# Altium integrated library USB-B-S-X-X-VT.IntLib: 1 symbol
Pins are listed as number, name and electrical type; pins without a type are passive.

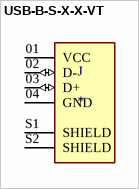
[diagram p0: symbol USB-B-S-X-X-VT]

## USB-B-S-X-X-VT
designator J
USB-B (USB TYPE-B) USB 2.0 Receptacle Connector 4 Position Through Hole; MF: Samtec; MP: USB-B-S-F-B-VT; Value: *; SnapEDA_Link: https://www.snapeda.com/parts/USB-B-S-F-B-VT/Samtec%20Inc./view-part/937560/?ref=snap; Package: None; DigiKey-Purchase-URL: https://snapeda.com/shop?store=DigiKey&id=937560; Price: None; Availability: Unavailable; Toby_UK-Purchase-URL: https://snapeda.com/shop?store=Toby+UK&id=937560
footprint SAMTEC_USB-B-S-X-X-VT
pins: 01 VCC (power), 02 D- (io), 03 D+ (io), 04 GND (power), S1 SHIELD, S2 SHIELD